# Altium footprint library SOP127P920X571-16.PcbLib: 1 footprints
Each footprint in its own frame and in the unit in brackets; x right, y up, seen from the top. Pads: shape width x height; smd on the part's side, far side on the other; paste and mask are expansions set on the pad; w line width, h text height; cw(c..) or ccw(c..) is an arc to the next point about the centre after c.
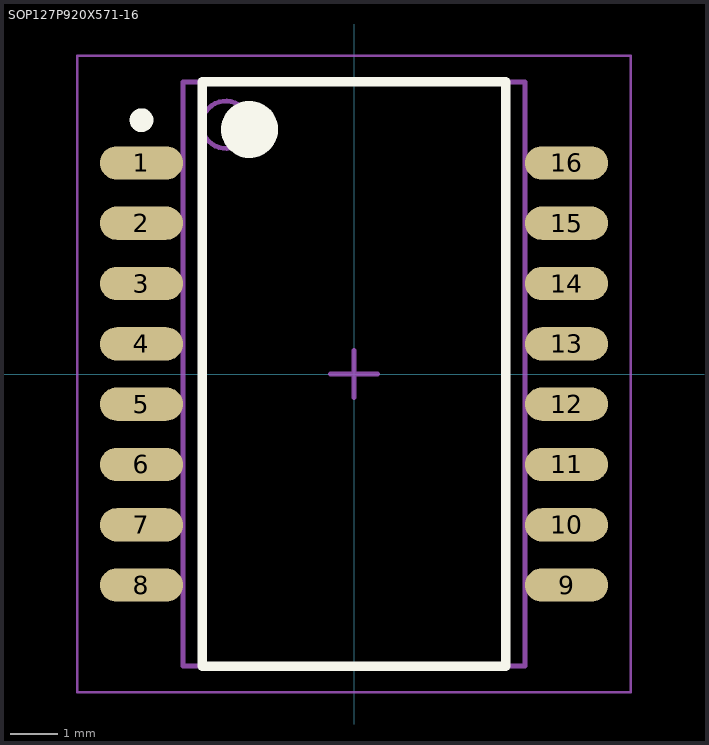
[diagram p0: the footprint, top view; thin cyan lines are the x and y axes]

## SOP127P920X571-16 [mm] "SOP, 16-Leads, Body 12,32x7,24mm, Pitch 1,27mm, IPC Low Density"
height 5.71
pads (16):
  oval 1.75x0.7 smd: 1(-4.475,4.445) 2(-4.475,3.175) 3(-4.475,1.905) 4(-4.475,0.635) 5(-4.475,-0.635) 6(-4.475,-1.905) 7(-4.475,-3.175) 8(-4.475,-4.445) 9(4.475,-4.445) 10(4.475,-3.175) 11(4.475,-1.905) 12(4.475,-0.635) 13(4.475,0.635) 14(4.475,1.905) 15(4.475,3.175) 16(4.475,4.445)
Top Overlay:
  circle w0.25: c-4.475,5.345 r0.125
  circle w0.6: c-2.2,5.15 r0.3
  lines w0.2: -3.2,-6.15 -3.2,6.15 3.2,6.15 3.2,-6.15 -3.2,-6.15
3D Body:
  circle w0.1: c-2.7,5.25 r0.5
  lines w0.1: -3.6,-6.15 -3.6,6.15 3.6,6.15 3.6,-6.15 -3.6,-6.15
Board:
  lines w0.05: -5.825,-6.7 -5.825,6.7 5.825,6.7 5.825,-6.7 -5.825,-6.7
  lines w0.1: -0.5,0 0.5,0 ; 0,-0.5 0,0.5
3D body: height 5.71, standoff 0.08, extent -3.6,-6.15 3.6,6.15